# EAGLE library part USB-MICRO-B-SOCKET- (library Scott-Connectors)
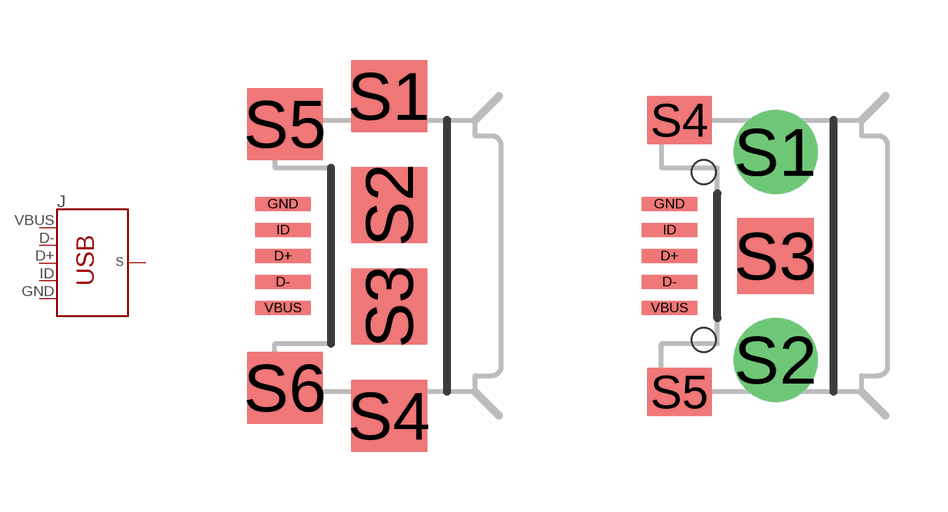
[diagram p4: symbol with the pads of USB-MICRO-B-SOCKET-1; footprints USB-MICRO-B-SOCKET-1, USB-MICRO-B-SOCKET-2]

Designator prefix J

## USB-MICRO-B-SOCKET-1  [USB-MICRO-B-SOCKET-1]
D+  D+
D-  D-
GND  GND  pas
ID  ID
S1  SHIELD
S2  SHIELD
S3  SHIELD
S4  SHIELD
S5  SHIELD
S6  SHIELD
VBUS  VBUS  pas

## USB-MICRO-B-SOCKET-2  [USB-MICRO-B-SOCKET-2]
D+  D+
D-  D-
GND  GND  pas
ID  ID
S1  SHIELD
S2  SHIELD
S3  SHIELD
S4  SHIELD
S5  SHIELD
VBUS  VBUS  pas

## USB-MICRO-B-SOCKET-3  [USB-MICRO-B-SOCKET-MOLEX-1050170001]
D+  D+
D-  D-
GND  GND  pas
ID  ID
SH1  SHIELD
SH2  SHIELD
SH3  SHIELD
SH4  SHIELD
SH5  SHIELD
SH6  SHIELD
SH7  SHIELD
SH8  SHIELD
VBUS  VBUS  pas

## Footprint USB-MICRO-B-SOCKET-1 (pad centres in mm)
smd 1.4 x 0.35: D+ -2.65,0; D- -2.65,-0.65; GND -2.65,1.3; ID -2.65,0.65; VBUS -2.65,-1.3
smd 1.9 x 1.8: S1 0,4; S4 0,-4; S5 -2.6,3.3; S6 -2.6,-3.3
smd 1.9 x 1.9: S2 0,1.27; S3 0,-1.27

## Footprint USB-MICRO-B-SOCKET-2 (pad centres in mm)
smd 1.4 x 0.35: D+ -2.65,0; D- -2.65,-0.65; GND -2.65,1.3; ID -2.65,0.65; VBUS -2.65,-1.3
drill 1.4: S1 0,2.6; S2 0,-2.6
smd 1.9 x 1.9: S3 0,0
smd 1.6 x 1.2: S4 -2.4,3.4; S5 -2.4,-3.4
hole 0.6 at -1.8,2.1
hole 0.6 at -1.8,-2.1

## Footprint USB-MICRO-B-SOCKET-MOLEX-1050170001 (pad centres in mm)
MOLEX-1050170001 https://www.digikey.com/product-detail/en/1050170001/WM1399CT-ND/2350885
smd 2.15 x 0.4: D+ -1.48,0; D- -1.48,-0.65; GND -1.48,1.3; ID -1.48,0.65; VBUS -1.48,-1.3
drill 0.85 pad 1.45: SH1 -1.08,-2.5; SH2 -1.08,2.5
drill 0.6 pad 0.95 long: SH3 1.62,-3.5; SH8 1.62,3.5
smd 1.9 x 1.2: SH4 1.62,-2.9; SH7 1.62,2.9
smd 1.9 x 1.5: SH5 1.62,-1; SH6 1.62,1